# EAGLE library part ZXMHC3A01T8 (library r3_parts)
COMPLEMENTARY 30V ENHANCEMENT MODE MOSFET H-BRIDGE This new generation of trench MOSFETs from Zetex utilizes a unique structure that combines the benefits of low on-resistance with fast switching speed. This makes them ideal for high efficiency, low voltage, power management applications.
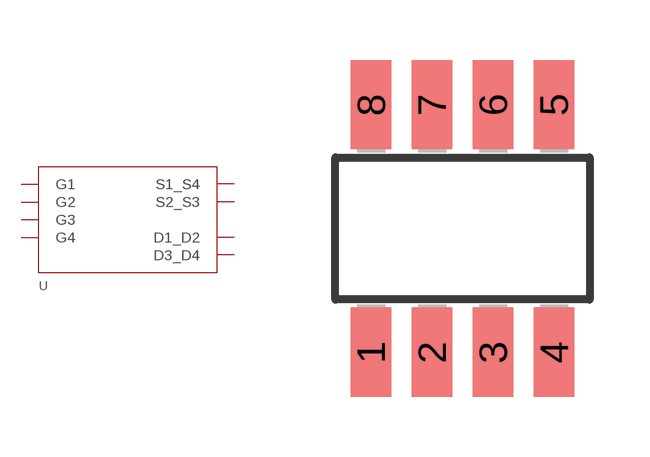
[diagram p1: symbol with the pads of SM8; footprint SM8]

Designator prefix -

## ZXMHC3A01T8  [SM8]
1  G3  in
2  S2_S3  pwr
3  G2  in
4  G1  in
5  D1_D2  pwr
6  S1_S4  pwr
7  D3_D4  pwr
8  G4  in

## Footprint SM8 (pad centres in mm)
SM8 Package
smd 1.016 x 2.235: 1 -2.286,-3.099; 2 -0.762,-3.099; 3 0.762,-3.099; 4 2.286,-3.099; 5 2.286,3.099; 6 0.762,3.099; 7 -0.762,3.099; 8 -2.286,3.099